# Altium footprint library TO263.PcbLib: 1 footprints
Each footprint in its own frame and in the unit in brackets; x right, y up, seen from the top. Pads: shape width x height; smd on the part's side, far side on the other; paste and mask are expansions set on the pad; w line width, h text height; cw(c..) or ccw(c..) is an arc to the next point about the centre after c.
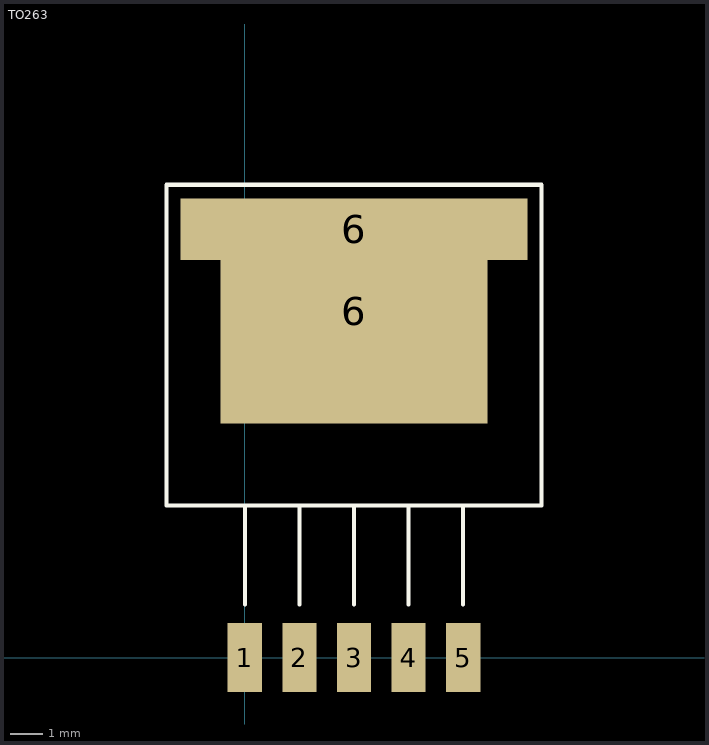
[diagram p0: the footprint, top view; thin cyan lines are the x and y axes]

## TO263 [mm]
pads (7):
  rect 1.07x2.16 smd: 1(0,0) 2(1.7,0) 3(3.4,0) 4(5.1,0) 5(6.8,0)
  rect 8.33x7 smd: 6(3.4,10.795)
  rect 10.8x1.91 smd: 6(3.4,13.35)
Top Overlay:
  lines w0.127: 0,1.651 0,4.732 ; 1.7,1.651 1.7,4.732 ; 3.4,1.651 3.4,4.732 ; 5.1,1.651 5.1,4.732 ; 6.8,1.651 6.8,4.732 ; -2.442,4.732 9.242,4.732 9.242,14.732 -2.442,14.732 -2.442,4.732
3D body: height 4.88, standoff 0.08, extent -1.6,-1.067 8.4,14.603